# Altium schematic symbol library BB-HEADER-P10-P18.SchLib: 1 symbol
Pins are listed as number, name and electrical type; pins without a type are passive.

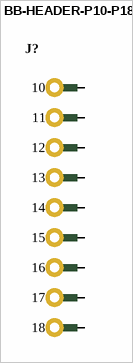
[diagram p0: symbol BB-HEADER-P10-P18]

## BB-HEADER-P10-P18
designator J?  (value not drawn)
BB Header, Vertical, Male, 0.1", 2.54mm, P10-P18
pins: 10, 11, 12, 13, 14, 15, 16, 17, 18